# Altium schematic symbol library add.SchLib: 2 symbols
Pins are listed as number, name and electrical type; pins without a type are passive.

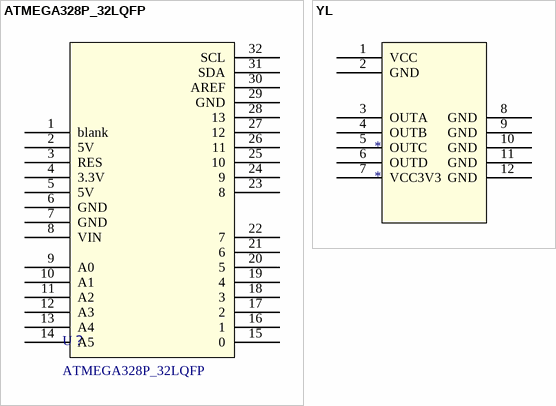
[diagram p0: symbols ATMEGA328P_32LQFP to YL]

## ATMEGA328P_32LQFP
designator U？
pins: 1 blank, 2 5V, 3 RES, 4 3.3V, 5 5V, 6 GND, 7 GND, 8 VIN, 9 A0, 10 A1, 11 A2, 12 A3, 13 A4, 14 A5, 15 0, 16 1, 17 2, 18 3, 19 4, 20 5, 21 6, 22 7, 23 8, 24 9, 25 10, 26 11, 27 12, 28 13, 29 GND, 30 AREF, 31 SDA, 32 SCL

## YL
designator *
pins: 1 VCC, 2 GND, 3 OUTA, 4 OUTB, 5 OUTC, 6 OUTD, 7 VCC3V3, 8 GND, 9 GND, 10 GND, 11 GND, 12 GND